# Altium footprint library MCU089B.PcbLib: 51 footprints (part 2 of 4)
Each footprint in its own frame and in the unit in brackets; x right, y up, seen from the top. Pads: shape width x height; smd on the part's side, far side on the other; paste and mask are expansions set on the pad; w line width, h text height; cw(c..) or ccw(c..) is an arc to the next point about the centre after c.
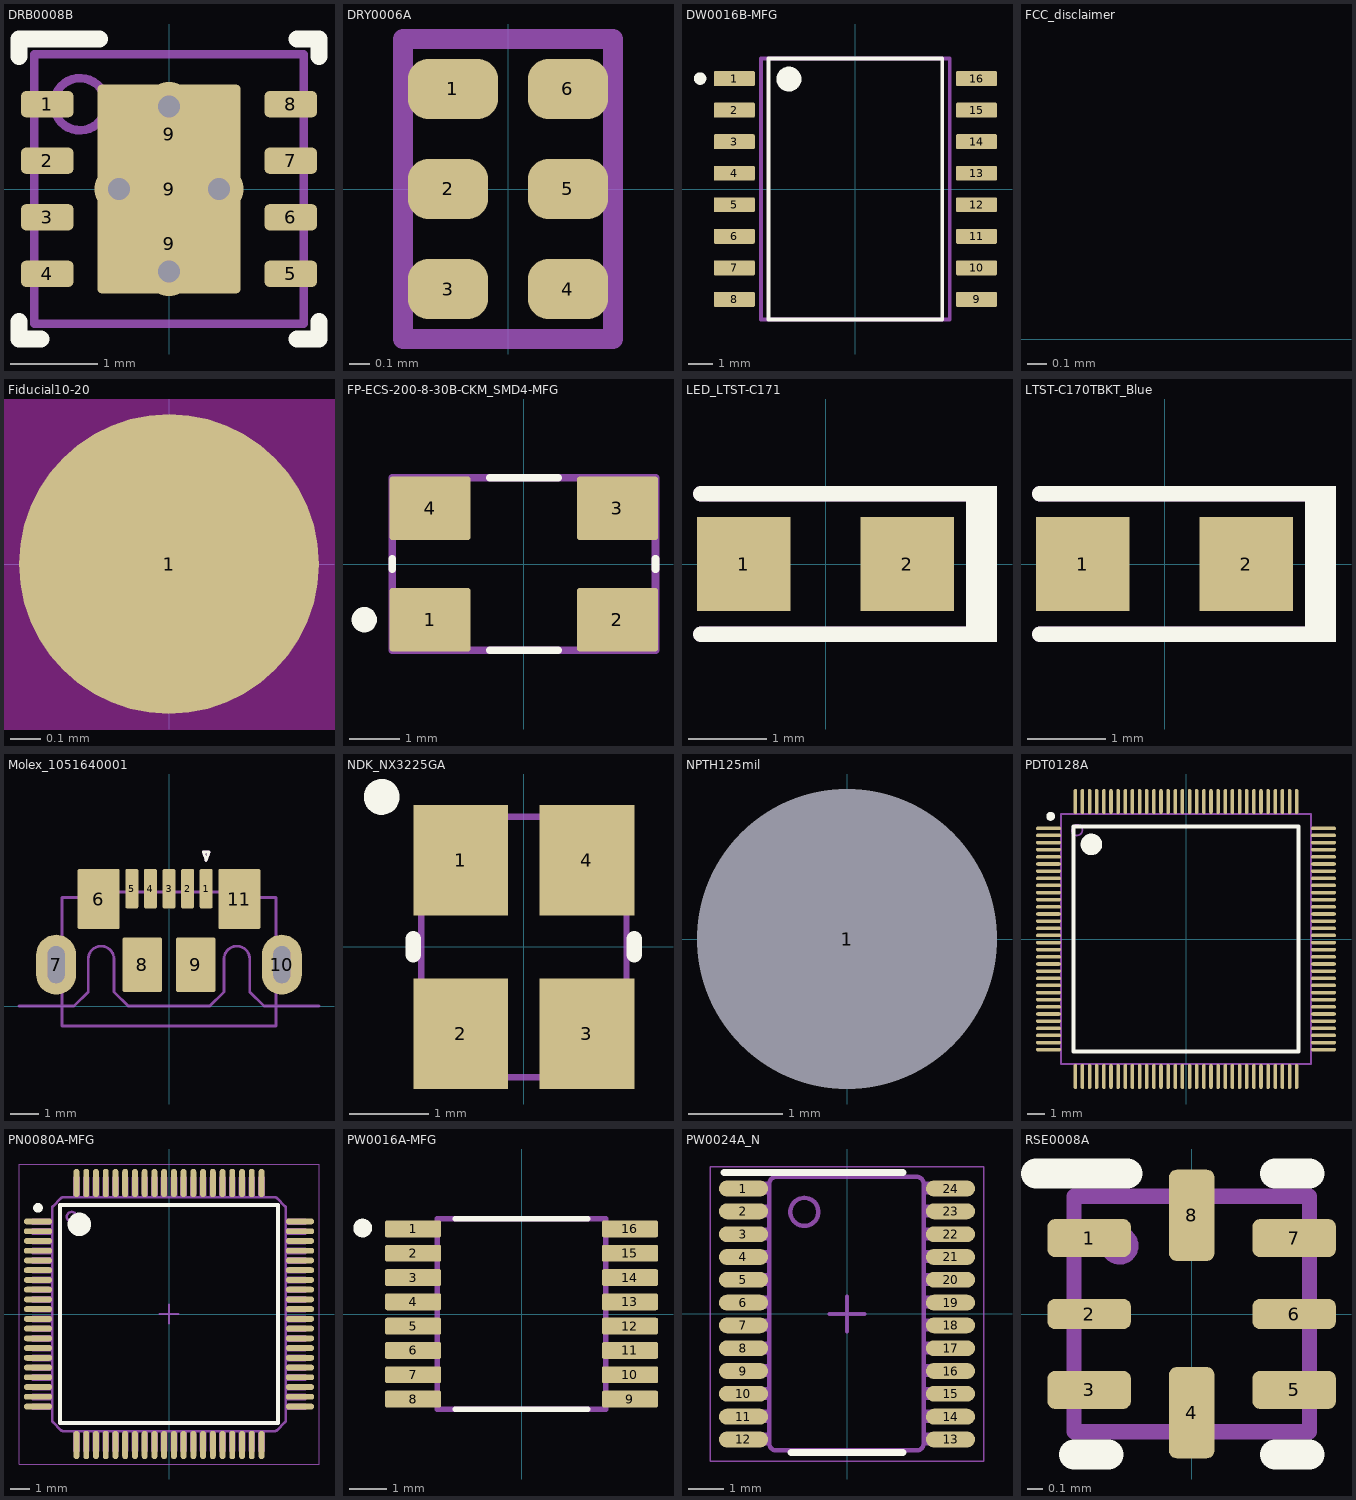
[diagram p1: the footprints below, top view; thin cyan lines are the x and y axes]

## DRB0008B [mm] "SON, 8-Leads, Body 3x3mm, Pitch 0.65mm, Thermal Pad 2.4x1.65mm, TI Recommended"
height 1
pads (11):
  rrect33% 0.6x0.3 smd: 1(-1.4,0.975) 2(-1.4,0.325) 3(-1.4,-0.325) 4(-1.4,-0.975) 5(1.4,-0.975) 6(1.4,-0.325) 7(1.4,0.325) 8(1.4,0.975)
  rrect50% 1.47x1.06 on Top Paste: 9(0,-0.63) 9(0,0.63)
  rrect6% 1.65x2.4 smd paste-1.2: 9(0,0)
via 0,0.95 diameter 0.559 hole 0.254
via -0.575,0 diameter 0.559 hole 0.254
via 0.575,0 diameter 0.559 hole 0.254
via 0,-0.95 diameter 0.559 hole 0.254
Top Overlay:
  lines w0.2: -1.725,-1.525 -1.725,-1.725 -1.475,-1.725 ; -1.725,1.525 -1.725,1.725 -0.8,1.725 ; 1.475,-1.725 1.725,-1.725 1.725,-1.525 ; 1.475,1.725 1.725,1.725 1.725,1.525
Mechanical 5:
  circle w0.1: c-1.025,0.975 r0.3
  lines w0.1: -1.55,-1.55 -1.55,1.55 1.55,1.55 1.55,-1.55 -1.55,-1.55
  text ".Designator" at -1.397,-0.889 h0.76
3D body "DRB0008B.stp": height 0.96, standoff 0.01, extent -1.5,-1.5 1.5,1.5

## DRY0006A [mm] "USON-6"
height 0.6
pads (6):
  rrect67% 0.45x0.3 smd paste-0.05 mask-0.05: 1(-0.275,0.5)
  rrect67% 0.4x0.3 smd paste-0.05 mask-0.05: 2(-0.3,0) 3(-0.3,-0.5) 4(0.3,-0.5) 5(0.3,0) 6(0.3,0.5)
Mechanical 5:
  circle w0.05: c-0.325,0.5 r0.1
  lines w0.1: -0.525,-0.75 0.525,-0.75 0.525,0.75 -0.525,0.75 -0.525,-0.75
  text ".Designator" at -0.075,0.575 h0.3
3D body "DRY0006A.stp": height 0.58, standoff 0, extent -0.5,-0.725 0.5,0.725

## DW0016B-MFG [mm] "SOIC, 16-Leads, Body 10.3x7.5mm, Pitch 1.27mm"
height 2.65
pads (16):
  rrect17% 1.65x0.6 smd paste+0 mask+0: 1(-4.875,4.445) 2(-4.875,3.175) 3(-4.875,1.905) 4(-4.875,0.635) 5(-4.875,-0.635) 6(-4.875,-1.905) 7(-4.875,-3.175) 8(-4.875,-4.445) 9(4.875,-4.445) 10(4.875,-3.175) 11(4.875,-1.905) 12(4.875,-0.635) 13(4.875,0.635) 14(4.875,1.905) 15(4.875,3.175) 16(4.875,4.445)
Top Overlay:
  circle w0.25: c-6.25,4.445 r0.125
  circle w0.5: c-2.675,4.425 r0.25
  lines w0.15: -3.5,-5.25 3.5,-5.25 3.5,5.25 -3.5,5.25 -3.5,-5.25
Mechanical 5:
  lines w0.15: -3.8,-5.25 3.8,-5.25 3.8,5.25 -3.8,5.25 -3.8,-5.25
  text ".Designator" at 0,-0.167 h0.5
3D body "IC_ISOUSB111DW_SOICW16.STEP": height 0.25, standoff 0, extent -5.8,-5.5 5.8,5.5

## FCC_disclaimer [mm]
Top Overlay:
  text "For evaluation only; not FCC approved for resale." at 39.243,0 h1.52

## Fiducial10-20 [mm]
pads (1):
  round 1 smd mask+0.5: 1(0,0)
Top Layer keep-out:
  circle w1.178: c0,0 r0.5

## FP-ECS-200-8-30B-CKM_SMD4-MFG [mm]
pads (4):
  rrect8% 1.6x1.25 smd paste+0 mask+0: 1(-1.85,-1.1) 2(1.85,-1.1) 3(1.85,1.1) 4(-1.85,1.1)
Top Overlay:
  circle w0.25: c-3.15,-1.1 r0.125
  lines w0.15: -2.6,-0.1 -2.6,0.1 ; -0.675,-1.7 0.675,-1.7 ; -0.675,1.7 0.675,1.7 ; 2.6,-0.1 2.6,0.1
Mechanical 5:
  lines w0.15: -2.6,-1.7 2.6,-1.7 2.6,1.7 -2.6,1.7 -2.6,-1.7
  text ".Designator" at 0.05,0.217 h0.5
3D body "Crys_ECS-200-8-30B-CKM_SMD4.STEP": height 0.25, standoff 0, extent -2.75,-1.825 2.75,1.825

## LED_LTST-C171 [mm] "LITE-ON"
height 0.8
pads (2):
  rect 1.2x1.2 smd: 1(-1.05,0) 2(1.05,0)
Top Overlay:
  rectangle: 1.8,-1 2.2,1
  lines w0.2: -1.6,-0.9 2.1,-0.9 ; -1.6,0.9 2.1,0.9
Mechanical 5:
  rectangle: 1.8,-1 2.2,1
  lines w0.2: -1.6,-0.9 2.1,-0.9 ; -1.6,0.9 2.1,0.9
  text ".Designator" at -1.4,-0.4 h0.76
3D body: height 0.8, standoff 0.3, extent -0.699,-0.624 0.699,0.624
3D body: height 0.3, standoff 0, extent -1.05,-0.675 1.05,0.675

## LTST-C170TBKT_Blue [mm] "LITE-ON"
height 1.2
pads (2):
  rect 1.2x1.2 smd: 1(-1.05,0) 2(1.05,0)
Top Overlay:
  rectangle: 1.8,-1 2.2,1
  lines w0.2: -1.6,-0.9 2.1,-0.9 ; -1.6,0.9 2.1,0.9
Mechanical 5:
  rectangle: 1.8,-1 2.2,1
  lines w0.2: -1.6,-0.9 2.1,-0.9 ; -1.6,0.9 2.1,0.9
  text ".Designator" at -1.4,-0.4 h0.76
3D body: height 0.5, standoff 0, extent -1.05,-0.675 1.05,0.675
3D body: height 1.2, standoff 0.5, extent -0.699,-0.624 0.699,0.624

## Molex_1051640001 [mm] "Receptacle, USB 2.0, Micro B, 5 Pos, 0.65mm Pitch, R/A, SMT"
height 2.7
pads (11):
  rrect22% 0.45x1.38 smd: 1(1.3,4.11) 2(0.65,4.11) 3(0,4.11) 4(-0.65,4.11) 5(-1.3,4.11)
  rrect7% 1.475x2.1 smd: 6(-2.462,3.75) 11(2.462,3.75)
  rrect100% 1.4x2.1 hole 0.6 slot 1.3 at 90 deg: 7(-3.95,1.45) 10(3.95,1.45)
  rrect7% 1.375x1.9 smd: 8(-0.937,1.45) 9(0.937,1.45)
Top Overlay:
  lines w0.1: 1.2,5.4 1.3,5.1 1.4,5.4 1.2,5.4
Mechanical 1:
  lines w0.1: -5.25,0 -3.325,0 -2.825,0.5 -2.825,1.65 cw(c-2.375,1.65) -1.925,1.65 -1.925,0.5 -1.425,0 -1.4,0 1.4,0 1.425,0 1.925,0.5 1.925,1.65 cw(c2.375,1.65) 2.825,1.65 2.825,0.5 3.325,0 5.25,0
Mechanical 5:
  lines w0.1: -3.75,1 -3.871,1 -4.1,1 -4.1,1.9 -3.871,1.9 -3.75,1.9 ; -1.425,4 -1.425,4.467 -1.175,4.467 -1.175,4 ; -0.775,4 -0.775,4.467 -0.525,4.467 -0.525,4 ; -0.125,4 -0.125,4.467 0.125,4.467 0.125,4 ; 0.525,4 0.525,4.467 0.775,4.467 0.775,4 ; 1.175,4 1.175,4.467 1.425,4.467 1.425,4 ; 3.75,1 3.871,1 4.1,1 4.1,1.9 3.871,1.9 3.75,1.9 ; -3.75,-0.7 -3.633,-0.7 -3.089,-0.7 -2.806,-0.7 2.806,-0.7 3.089,-0.7 3.633,-0.7 3.75,-0.7 3.75,3.8 3.633,3.8 3.089,3.8 3,3.8 3,4 2.806,4 -2.806,4 -3,4 -3,3.8 -3.089,3.8 -3.633,3.8 -3.75,3.8 -3.75,-0.7 ; 1.2,5.4 1.4,5.4 1.3,5.1 1.2,5.4
  text ".Designator" at -3.2,2.3 h1.85
3D body "1051640001.stp": height 2.45, standoff -0.8, extent -4.1,-0.7 4.1,4.467

## NDK_NX3225GA [mm] "NDK"
height 0.9
pads (4):
  rect 1.2x1.4 smd: 1(-0.8,1.1) 2(-0.8,-1.1) 3(0.8,-1.1) 4(0.8,1.1)
Top Overlay:
  circle w0.254: c-1.8,1.9 r0.1
  lines w0.2: -1.4,-0.1 -1.4,0.1 ; 1.4,-0.1 1.4,0.1
Mechanical 5:
  circle w0.08: c-0.8,1.1 r0.2
  lines w0.08: -1.3,-1.65 -1.3,1.65 1.3,1.65 1.3,-1.65 -1.3,-1.65
  text ".Designator" at 0.6,-1.4 h0.7
3D body: height 0.9, standoff 0, extent -1.299,-1.649 1.299,1.649
3D body: height 0.9, standoff 0.5, extent -0.999,0.901 -0.601,1.299

## NPTH125mil [mil]
pads (1):
  round 120 hole 125 unplated mask+15: 1(0,0)

## PDT0128A [mm] "Thin QFP, 128-Leads, Body 14x14mm, Pitch 0.4mm"
height 1.2
pads (128):
  oval 1.4x0.2 smd: 1(-7.7,6.2) 2(-7.7,5.8) 3(-7.7,5.4) 4(-7.7,5) 5(-7.7,4.6) 6(-7.7,4.2) 7(-7.7,3.8) 8(-7.7,3.4) 9(-7.7,3) 10(-7.7,2.6) 11(-7.7,2.2) 12(-7.7,1.8) 13(-7.7,1.4) 14(-7.7,1) 15(-7.7,0.6) 16(-7.7,0.2) 17(-7.7,-0.2) 18(-7.7,-0.6) 19(-7.7,-1) 20(-7.7,-1.4) 21(-7.7,-1.8) 22(-7.7,-2.2) 23(-7.7,-2.6) 24(-7.7,-3) 25(-7.7,-3.4) 26(-7.7,-3.8) 27(-7.7,-4.2) 28(-7.7,-4.6) 29(-7.7,-5) 30(-7.7,-5.4) 31(-7.7,-5.8) 32(-7.7,-6.2) 65(7.7,-6.2) 66(7.7,-5.8) 67(7.7,-5.4) 68(7.7,-5) 69(7.7,-4.6) 70(7.7,-4.2) 71(7.7,-3.8) 72(7.7,-3.4) 73(7.7,-3) 74(7.7,-2.6) 75(7.7,-2.2) 76(7.7,-1.8) 77(7.7,-1.4) 78(7.7,-1) 79(7.7,-0.6) 80(7.7,-0.2) 81(7.7,0.2) 82(7.7,0.6) 83(7.7,1) 84(7.7,1.4) 85(7.7,1.8) 86(7.7,2.2) 87(7.7,2.6) 88(7.7,3) 89(7.7,3.4) 90(7.7,3.8) 91(7.7,4.2) 92(7.7,4.6) 93(7.7,5) 94(7.7,5.4) 95(7.7,5.8) 96(7.7,6.2)
  oval 0.2x1.4 smd: 33(-6.2,-7.7) 34(-5.8,-7.7) 35(-5.4,-7.7) 36(-5,-7.7) 37(-4.6,-7.7) 38(-4.2,-7.7) 39(-3.8,-7.7) 40(-3.4,-7.7) 41(-3,-7.7) 42(-2.6,-7.7) 43(-2.2,-7.7) 44(-1.8,-7.7) 45(-1.4,-7.7) 46(-1,-7.7) 47(-0.6,-7.7) 48(-0.2,-7.7) 49(0.2,-7.7) 50(0.6,-7.7) 51(1,-7.7) 52(1.4,-7.7) 53(1.8,-7.7) 54(2.2,-7.7) 55(2.6,-7.7) 56(3,-7.7) 57(3.4,-7.7) 58(3.8,-7.7) 59(4.2,-7.7) 60(4.6,-7.7) 61(5,-7.7) 62(5.4,-7.7) 63(5.8,-7.7) 64(6.2,-7.7) 97(6.2,7.7) 98(5.8,7.7) 99(5.4,7.7) 100(5,7.7) 101(4.6,7.7) 102(4.2,7.7) 103(3.8,7.7) 104(3.4,7.7) 105(3,7.7) 106(2.6,7.7) 107(2.2,7.7) 108(1.8,7.7) 109(1.4,7.7) 110(1,7.7) 111(0.6,7.7) 112(0.2,7.7) 113(-0.2,7.7) 114(-0.6,7.7) 115(-1,7.7) 116(-1.4,7.7) 117(-1.8,7.7) 118(-2.2,7.7) 119(-2.6,7.7) 120(-3,7.7) 121(-3.4,7.7) 122(-3.8,7.7) 123(-4.2,7.7) 124(-4.6,7.7) 125(-5,7.7) 126(-5.4,7.7) 127(-5.8,7.7) 128(-6.2,7.7)
Top Overlay:
  circle w0.6: c-5.3,5.3 r0.3
  circle w0.25: c-7.575,6.87 r0.125
  lines w0.2: -6.3,-6.3 6.3,-6.3 6.3,6.3 -6.3,6.3 -6.3,-6.3
Mechanical 5:
  circle w0.1: c-6.1,6.1 r0.3
  lines w0.1: -7,-7 7,-7 7,7 -7,7 -7,-7
  text ".Designator" at -1.854,-0.508 h1.02
3D body "PDT0128A.stp": height 1.07, standoff 0, extent -8,-8 8,8

## PN0080A-MFG [mm]
pads (80):
  oval 1.45x0.3 smd: 1(-6.725,4.75) 2(-6.725,4.25) 3(-6.725,3.75) 4(-6.725,3.25) 5(-6.725,2.75) 6(-6.725,2.25) 7(-6.725,1.75) 8(-6.725,1.25) 9(-6.725,0.75) 10(-6.725,0.25) 11(-6.725,-0.25) 12(-6.725,-0.75) 13(-6.725,-1.25) 14(-6.725,-1.75) 15(-6.725,-2.25) 16(-6.725,-2.75) 17(-6.725,-3.25) 18(-6.725,-3.75) 19(-6.725,-4.25) 20(-6.725,-4.75) 41(6.725,-4.75) 42(6.725,-4.25) 43(6.725,-3.75) 44(6.725,-3.25) 45(6.725,-2.75) 46(6.725,-2.25) 47(6.725,-1.75) 48(6.725,-1.25) 49(6.725,-0.75) 50(6.725,-0.25) 51(6.725,0.25) 52(6.725,0.75) 53(6.725,1.25) 54(6.725,1.75) 55(6.725,2.25) 56(6.725,2.75) 57(6.725,3.25) 58(6.725,3.75) 59(6.725,4.25) 60(6.725,4.75)
  oval 0.3x1.45 smd: 21(-4.75,-6.725) 22(-4.25,-6.725) 23(-3.75,-6.725) 24(-3.25,-6.725) 25(-2.75,-6.725) 26(-2.25,-6.725) 27(-1.75,-6.725) 28(-1.25,-6.725) 29(-0.75,-6.725) 30(-0.25,-6.725) 31(0.25,-6.725) 32(0.75,-6.725) 33(1.25,-6.725) 34(1.75,-6.725) 35(2.25,-6.725) 36(2.75,-6.725) 37(3.25,-6.725) 38(3.75,-6.725) 39(4.25,-6.725) 40(4.75,-6.725) 61(4.75,6.725) 62(4.25,6.725) 63(3.75,6.725) 64(3.25,6.725) 65(2.75,6.725) 66(2.25,6.725) 67(1.75,6.725) 68(1.25,6.725) 69(0.75,6.725) 70(0.25,6.725) 71(-0.25,6.725) 72(-0.75,6.725) 73(-1.25,6.725) 74(-1.75,6.725) 75(-2.25,6.725) 76(-2.75,6.725) 77(-3.25,6.725) 78(-3.75,6.725) 79(-4.25,6.725) 80(-4.75,6.725)
Top Overlay:
  circle w0.6: c-4.6,4.6 r0.3
  circle w0.25: c-6.725,5.45 r0.125
  lines w0.2: -5.6,-5.6 5.6,-5.6 5.6,5.6 -5.6,5.6 -5.6,-5.6
Mechanical 5:
  drawing of 978 lines, arcs and shapes, not listed
  text ".Designator" at -1.825,-0.5 h1.02
Mechanical 15:
  lines w0.05: -7.7,-7.7 7.7,-7.7 7.7,7.7 -7.7,7.7 -7.7,-7.7
  lines w0.1: -0.5,0 0.5,0 ; 0,-0.5 0,0.5
3D body "IC_TMS320F280025CPNSR_LQFP80.STEP": height 0.25, standoff 0, extent -7.5,-7.5 7.5,7.5

## PW0016A-MFG [mm]
height 8.64
pads (16):
  rrect22% 1.5x0.45 smd paste+0 mask+0: 1(-2.9,2.275) 2(-2.9,1.625) 3(-2.9,0.975) 4(-2.9,0.325) 5(-2.9,-0.325) 6(-2.9,-0.975) 7(-2.9,-1.625) 8(-2.9,-2.275) 9(2.9,-2.275) 10(2.9,-1.625) 11(2.9,-0.975) 12(2.9,-0.325) 13(2.9,0.325) 14(2.9,0.975) 15(2.9,1.625) 16(2.9,2.275)
Top Overlay:
  circle w0.25: c-4.25,2.3 r0.125
  lines w0.15: -1.775,-2.55 1.775,-2.55 ; -1.775,2.55 1.775,2.55
Mechanical 5:
  lines w0.15: -2.25,-2.55 2.25,-2.55 2.25,2.55 -2.25,2.55 -2.25,-2.55
  text ".Designator" at 0.05,0.217 h0.5
3D body "IC_SN74LV4053APWR_TSSOP16.STEP": height 0.25, standoff 0, extent -3.75,-2.8 3.75,2.8

## PW0024A_N [mm] "TSOP, 24-Leads, Body 7.8x4.4mm, Pitch 0.65mm, IPC Medium Density"
height 1.2
pads (24):
  oval 1.4x0.45 smd: 1(-2.95,3.575) 2(-2.95,2.925) 3(-2.95,2.275) 4(-2.95,1.625) 5(-2.95,0.975) 6(-2.95,0.325) 7(-2.95,-0.325) 8(-2.95,-0.975) 9(-2.95,-1.625) 10(-2.95,-2.275) 11(-2.95,-2.925) 12(-2.95,-3.575) 13(2.95,-3.575) 14(2.95,-2.925) 15(2.95,-2.275) 16(2.95,-1.625) 17(2.95,-0.975) 18(2.95,-0.325) 19(2.95,0.325) 20(2.95,0.975) 21(2.95,1.625) 22(2.95,2.275) 23(2.95,2.925) 24(2.95,3.575)
Top Overlay:
  lines w0.2: -3.505,4.039 1.595,4.039 ; -1.6,-3.95 1.6,-3.95
Mechanical 5:
  drawing of 298 lines, arcs and shapes, not listed
  text ".Designator" at -1.854,-0.508 h1.02
Mechanical 15:
  lines w0.05: -3.9,-4.2 -3.9,4.2 3.9,4.2 3.9,-4.2 -3.9,-4.2
  lines w0.1: -0.5,0 0.5,0 ; 0,-0.5 0,0.5
3D body "PW0024A.stp": height 1, standoff 0, extent -3.21,-3.9 3.21,3.9

## RSE0008A [mm] "QFN, 8-Leads, Body 1.5x1.5mm, Pitch 0.5mm, TI Recommended"
height 0.6
pads (8):
  rrect40% 0.55x0.25 smd: 1(-0.675,0.5) 3(-0.675,-0.5) 5(0.675,-0.5) 7(0.675,0.5)
  rrect50% 0.55x0.2 smd: 2(-0.675,0) 6(0.675,0)
  rrect33% 0.3x0.6 smd: 4(0,-0.65) 8(0,0.65)
Top Overlay:
  lines w0.2: -1.025,0.925 -0.425,0.925 ; -0.775,-0.925 -0.55,-0.925 ; 0.55,-0.925 0.775,-0.925 ; 0.55,0.925 0.775,0.925
Mechanical 5:
  circle w0.05: c-0.475,0.45 r0.1
  lines w0.1: -0.775,-0.775 -0.775,0.775 0.775,0.775 0.775,-0.775 -0.775,-0.775
  text ".Designator" at -0.635,-0.254 h0.36
3D body "RSE0008A.stp": height 0.6, standoff 0, extent -0.75,-0.75 0.75,0.75